# Altium footprint library MUSBRM1C1M0 USBC.PcbLib: 1 footprints
Each footprint in its own frame and in the unit in brackets; x right, y up, seen from the top. Pads: shape width x height; smd on the part's side, far side on the other; paste and mask are expansions set on the pad; w line width, h text height; cw(c..) or ccw(c..) is an arc to the next point about the centre after c.
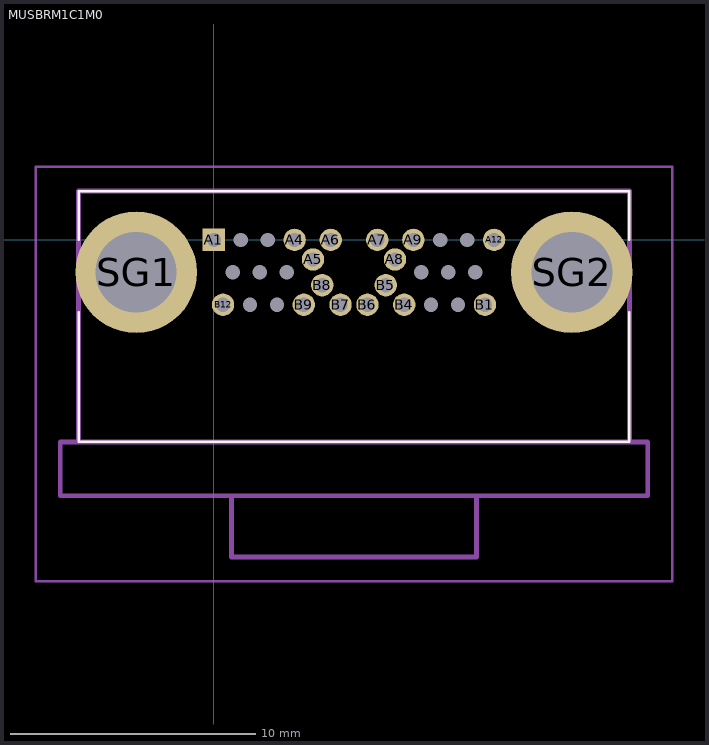
[diagram p0: the footprint, top view; thin cyan lines are the x and y axes]

## MUSBRM1C1M0 [mm]
pads (32):
  rect 0.914x0.914 hole 0.58: A1(0,0)
  round 0 / inner round 0.914 / far side round 0.914 hole 0.58: A2(1.1,0) A3(2.2,0) A10(9.25,0) A11(10.35,0) B2(9.975,-2.65) B3(8.875,-2.65) B10(2.575,-2.65) B11(1.475,-2.65) G1(0.775,-1.325) G2(1.875,-1.325) G3(2.975,-1.325) G4(8.475,-1.325) G5(9.575,-1.325) G6(10.675,-1.325)
  round 0.914 hole 0.58: A4(3.3,0) A5(4.05,-0.8) A6(4.775,0) A7(6.675,0) A8(7.4,-0.8) A9(8.15,0) A12(11.45,0) B1(11.075,-2.65) B4(7.775,-2.65) B5(7.025,-1.85) B6(6.275,-2.65) B7(5.175,-2.65) B8(4.425,-1.85) B9(3.675,-2.65) B12(0.375,-2.65)
  round 4.957 hole 3.305: SG1(-3.175,-1.325) SG2(14.625,-1.325)
Top Overlay:
  lines w0.1: -5.525,-2.955 -5.525,-8.255 16.975,-8.255 16.975,-2.955 ; -5.525,0 -5.525,1.995 16.975,1.995 16.975,0
Mechanical 13:
  lines w0.2: 0.725,-10.455 0.725,-12.955 10.725,-12.955 10.725,-10.455 ; -5.525,-8.255 -6.275,-8.255 -6.275,-10.455 17.725,-10.455 17.725,-8.255 16.975,-8.255 ; -5.525,-8.255 -5.525,1.995 16.975,1.995 16.975,-8.255 ; -5.525,-8.255 16.975,-8.255
Mechanical 15:
  lines w0.1: -7.275,-13.955 -7.275,2.995 18.725,2.995 18.725,-13.955 -7.275,-13.955
3D body "M-MUSBR-M1C1-X0-REVT3.STEP": height 8.4, standoff -2.25, extent -6.035,-13.172 17.465,1.778